# Altium schematic symbol library 860010772006.SchLib: 1 symbol
Pins are listed as number, name and electrical type; pins without a type are passive.

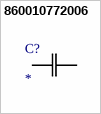
[diagram p0: symbol 860010772006]

## 860010772006
designator C?
No Description Available; Mfr_Name: Wurth Electronics
footprint CAP_WCAP-ATG8_5x11_WRE
pins: 1, 2